# Altium schematic symbol library Card_reader.SchLib: 10 symbols
Pins are listed as number, name and electrical type; pins without a type are passive.

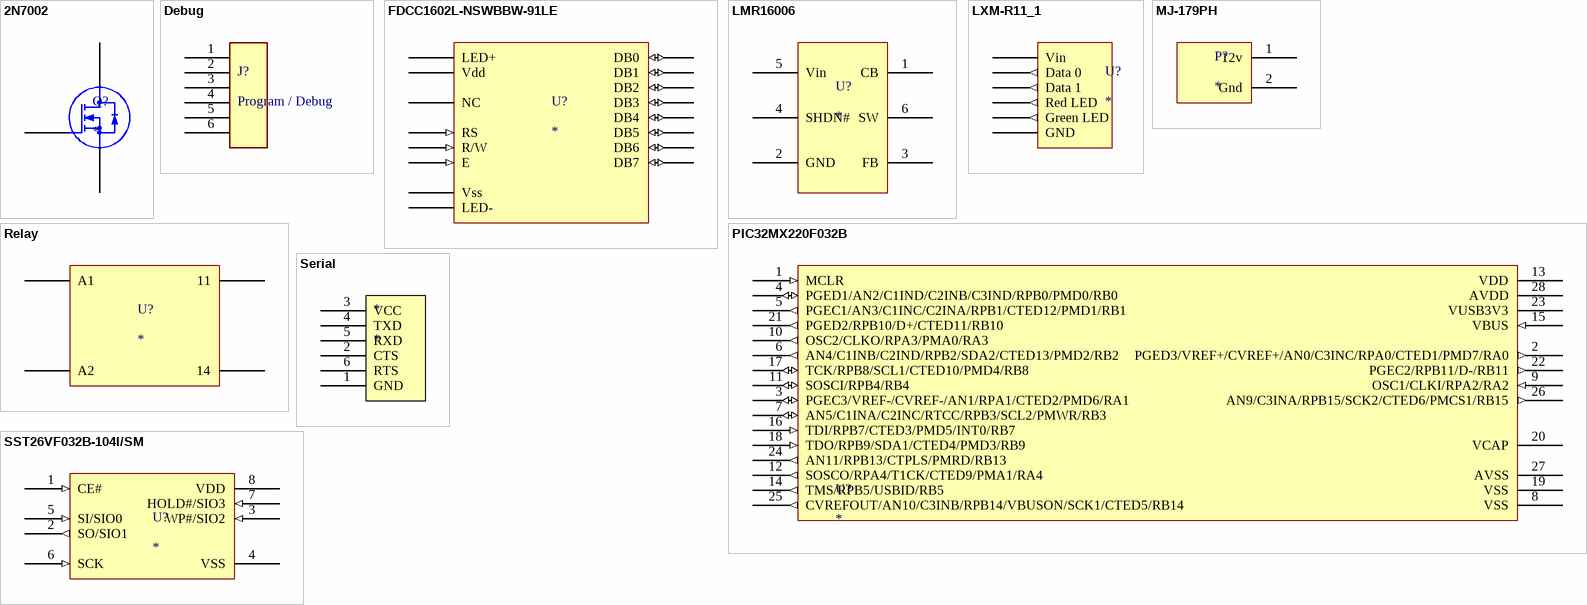
[diagram p0: symbols 2N7002 to SST26VF032B-104I/SM]

## 2N7002
designator Q?
Transistor MOSFET, Canal N, 300 mA, 60 V, 2.8 ohm, 10 V, 2 V; Fabricant: NEXPERIA; Fournisseur: Farnell; RefFabricant: 2N7002,215; RefFournisseur: 1510761
footprint TO-236AB
pins: 1 G, 2 S, 3 D

## Debug
designator J?, comment Program / Debug
RJ11; Fabricant: Tyco; RefFabricant: 1-215876-3; Fournisseur: Farnell; RefFournisseur: 1773039
footprint RJ12_90
pins: 1, 2 65, 3, 4 67, 5 68, 6 69 (power)

## FDCC1602L-NSWBBW-91LE
designator U?
Fabricant: FORDATA; RefFabricant: FDCC1602L-NSWBBW-91LE; Fournisseur: Farnell; RefFournisseur: 1847941
footprint LCD (Only header)
pins: 1 Vss (power), 2 Vdd (power), 3 NC, 4 RS (in), 5 R/W (in), 6 E (in), 7 DB0 (io), 8 DB1 (io), 9 DB2 (io), 10 DB3 (io), 11 DB4 (io), 12 DB5 (io), 13 DB6 (io), 14 DB7 (io), 15 LED+ (power), 16 LED- (power)

## LMR16006
designator U?
Régulateurs à découpage DC/DC ajustables; Fabricant: Texas Instruments; RefFabricant: LMR16006YDDC; Fournisseur: Farnell; RefFournisseur: 2455134
footprint SOT (6)
pins: 1 CB, 2 GND, 3 FB, 4 SHDN#, 5 Vin, 6 SW

## LXM-R11_1
designator U?
Lecteur RFid; Fabricant: STid; RefFabricant: LXM-R11; Fournisseur: *; RefFournisseur: *
footprint Bornier 6 pin
pins: 1 Vin (power), 2 Data 0 (out), 3 Data 1 (out), 4 Red LED (out), 5 Green LED (out), 6 GND (power)

## MJ-179PH
designator P?
Connecteurs DC Jacks; Fabricant: MULTICOMP; RefFabricant: MJ-179PH; Fournisseur: Farnell; RefFournisseur: 1737246
footprint DC Jack
pins: 1 12v, 2 Gnd

## PIC32MX220F032B
designator U?
Fabricant: MICROCHIP; Fournisseur: Farnell
footprint SOIC (28)
pins: 1 MCLR (in), 2 PGED3/VREF+/CVREF+/AN0/C3INC/RPA0/CTED1/PMD7/RA0 (out), 3 PGEC3/VREF-/CVREF-/AN1/RPA1/CTED2/PMD6/RA1 (io), 4 PGED1/AN2/C1IND/C2INB/C3IND/RPB0/PMD0/RB0 (io), 5 PGEC1/AN3/C1INC/C2INA/RPB1/CTED12/PMD1/RB1 (out), 6 AN4/C1INB/C2IND/RPB2/SDA2/CTED13/PMD2/RB2 (out), 7 AN5/C1INA/C2INC/RTCC/RPB3/SCL2/PMWR/RB3 (io), 8 VSS, 9 OSC1/CLKI/RPA2/RA2 (in), 10 OSC2/CLKO/RPA3/PMA0/RA3 (out), 11 SOSCI/RPB4/RB4 (io), 12 SOSCO/RPA4/T1CK/CTED9/PMA1/RA4 (out), 13 VDD, 14 TMS/RPB5/USBID/RB5 (out), 15 VBUS (in), 16 TDI/RPB7/CTED3/PMD5/INT0/RB7 (in), 17 TCK/RPB8/SCL1/CTED10/PMD4/RB8 (io), 18 TDO/RPB9/SDA1/CTED4/PMD3/RB9 (in), 19 VSS, 20 VCAP, 21 PGED2/RPB10/D+/CTED11/RB10 (out), 22 PGEC2/RPB11/D-/RB11 (out), 23 VUSB3V3 (power), 24 AN11/RPB13/CTPLS/PMRD/RB13 (out), 25 CVREFOUT/AN10/C3INB/RPB14/VBUSON/SCK1/CTED5/RB14 (out), 26 AN9/C3INA/RPB15/SCK2/CTED6/PMCS1/RB15 (out), 27 AVSS, 28 AVDD

## Relay
designator U?
Relais de puissance; Fabricant: TE CONNECTIVITY / OEG; RefFabricant: PCFN-112H2MS; Fournisseur: Farnell; RefFournisseur: 2504686
footprint Relay
pins: 11, 14, A1, A2

## Serial
designator *
Header 6 pin
footprint Header 6 pin
pins: 1 GND, 2 CTS, 3 VCC, 4 TXD, 5 RXD, 6 RTS

## SST26VF032B-104I/SM
designator U?
Fabricant: MICROCHIP; Fournisseur: Farnell; RefFabricant: SST26VF032B-104I/SM; RefFournisseur: 2471177
footprint SOIC 8
pins: 1 CE# (in), 2 SO/SIO1 (out), 3 WP#/SIO2 (in), 4 VSS (power), 5 SI/SIO0 (in), 6 SCK (in), 7 HOLD#/SIO3 (in), 8 VDD (power)